# Altium footprint library SMD_5032_2Pin_Crystal_Oscillator_m.PcbLib: 1 footprints
Each footprint in its own frame and in the unit in brackets; x right, y up, seen from the top. Pads: shape width x height; smd on the part's side, far side on the other; paste and mask are expansions set on the pad; w line width, h text height; cw(c..) or ccw(c..) is an arc to the next point about the centre after c.
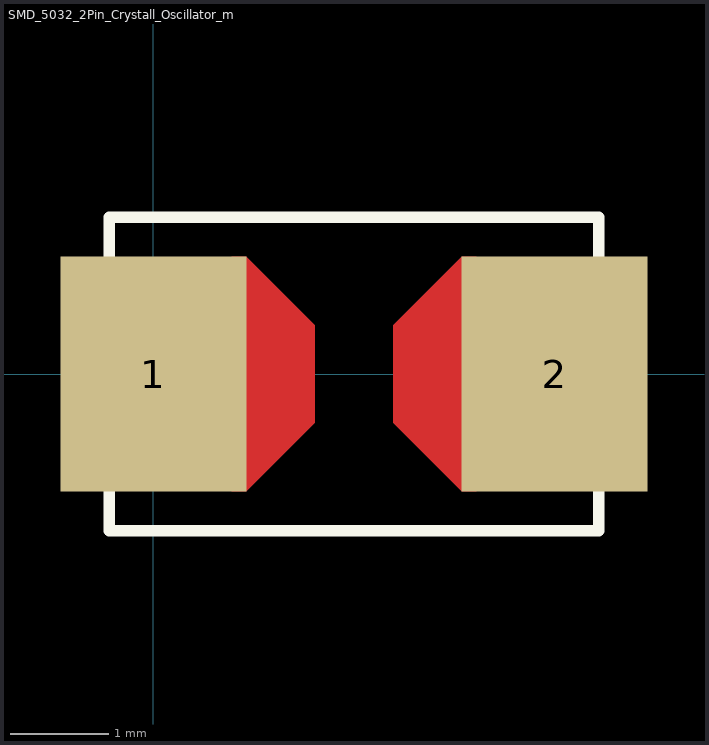
[diagram p0: the footprint, top view; thin cyan lines are the x and y axes]

## SMD_5032_2Pin_Crystall_Oscillator_m [mm]
pads (2):
  rect 1.9x2.4 smd: 1(0,0) 2(4.1,0)
Top Layer:
  region: 0.8,1.2 0.95,1.2 1.65,0.5 1.65,-0.5 0.95,-1.2 0.8,-1.2
  region: 3.3,-1.2 3.15,-1.2 2.45,-0.5 2.45,0.5 3.15,1.2 3.3,1.2
Top Overlay:
  lines w0.12: -0.45,-1.6 -0.45,1.6 4.55,1.6 4.55,-1.6 -0.45,-1.6
Top Solder:
  region: 3.3,-1.3 3.05,-1.3 2.35,-0.6 2.35,0.6 3.05,1.3 3.3,1.3
  region: 0.8,1.3 1.05,1.3 1.75,0.6 1.75,-0.6 1.05,-1.3 0.8,-1.3
3D body "SMD_5032_2Pin_Crystal_Oscillator.stp": height 1.31, standoff 0, extent -0.4,-1.6 4.6,1.6